# Altium footprint library Diode.PcbLib: 33 footprints (part 3 of 3)
Each footprint in its own frame and in the unit in brackets; x right, y up, seen from the top. Pads: shape width x height; smd on the part's side, far side on the other; paste and mask are expansions set on the pad; w line width, h text height; cw(c..) or ccw(c..) is an arc to the next point about the centre after c.
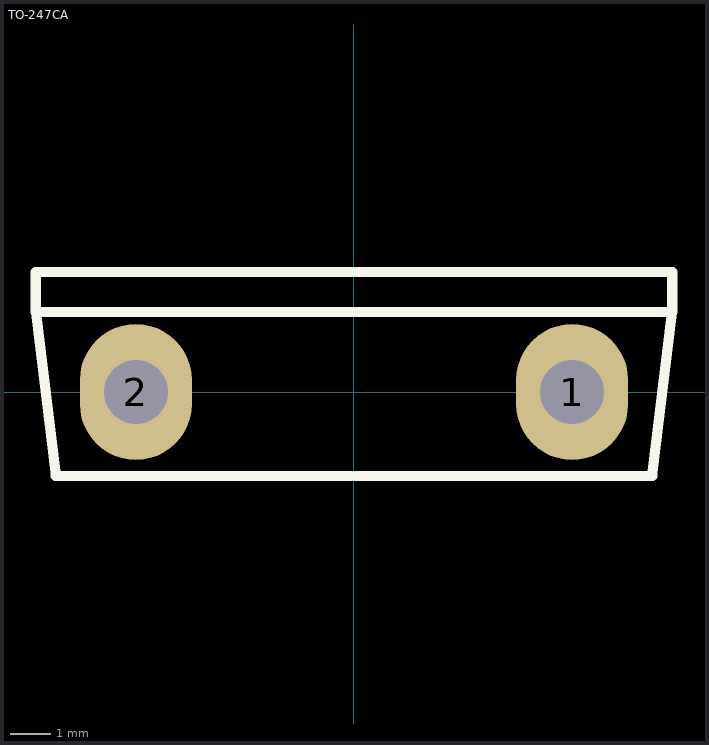
[diagram p2: the footprint, top view; thin cyan lines are the x and y axes]

## TO-247CA [mm]
pads (2):
  oval 2.8x3.4 hole 1.6: 1(5.45,0) 2(-5.45,0)
Top Overlay:
  lines w0.254: -7.95,2 -7.95,3 7.95,3 7.95,2 ; -7.95,2 7.95,2 ; -7.95,2 -7.45,-2.1 7.45,-2.1 7.95,2
3D body: height 24.64, standoff 4.32, extent -6.952,-1.802 6.952,1.802
3D body: height 4.83, standoff -1.02, extent -8.077,-2.227 8.077,3.127
3D body: height 4.83, standoff -1.02, extent -7.949,2.001 7.949,2.999
3D body: height 4.83, standoff -1.02, extent -8.077,-2.227 8.077,3.127